# Altium footprint library DSK0010A.PcbLib: 1 footprints
Each footprint in its own frame and in the unit in brackets; x right, y up, seen from the top. Pads: shape width x height; smd on the part's side, far side on the other; paste and mask are expansions set on the pad; w line width, h text height; cw(c..) or ccw(c..) is an arc to the next point about the centre after c.
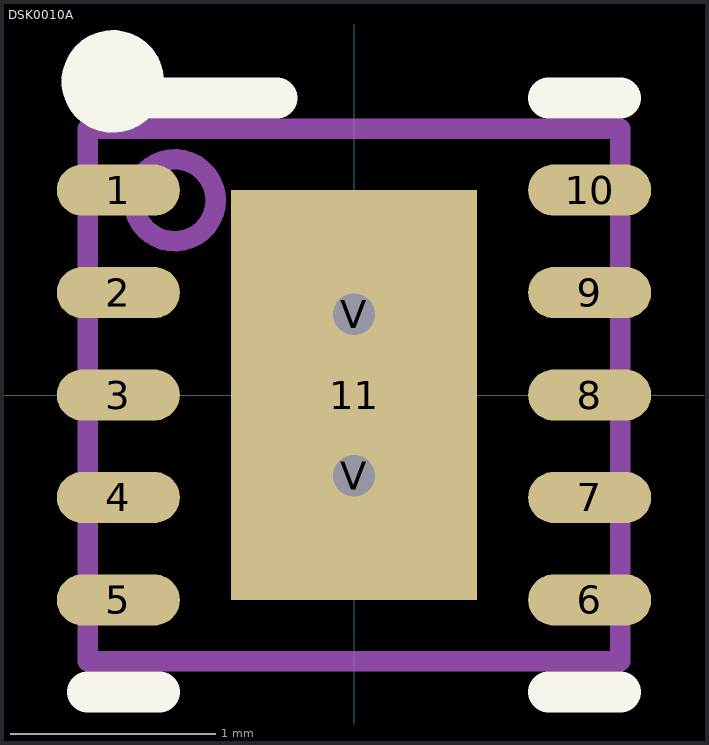
[diagram p0: the footprint, top view; thin cyan lines are the x and y axes]

## DSK0010A [mm]
pads (13):
  oval 0.6x0.25 smd paste-0.102 mask+0.051: 1(-1.15,1) 2(-1.15,0.5) 3(-1.15,0) 4(-1.15,-0.5) 5(-1.15,-1) 6(1.15,-1) 7(1.15,-0.5) 8(1.15,0) 9(1.15,0.5) 10(1.15,1)
  rect 1.2x2 smd paste-0.6 mask+0.051: 11(0,0)
  round 0.5 hole 0.203 mask+0.051: V(0,-0.394) V(0,0.394)
Top Overlay:
  circle w0.25: c-1.177,1.53 r0.125
  lines w0.2: -1.3,-1.45 -0.95,-1.45 ; -1.3,1.45 -0.375,1.45 ; 0.95,-1.45 1.3,-1.45 ; 0.95,1.45 1.3,1.45
Top Paste:
  region: -0.563,0.895 -0.563,-0.894 0.563,-0.894 0.563,0.895
Top Solder:
  region: 0.663,0.594 -0.663,0.594 -0.663,1.064 0.663,1.064
  region: 0.663,-0.194 -0.663,-0.194 -0.663,0.194 0.663,0.194
  region: 0.663,-1.064 -0.663,-1.064 -0.663,-0.594 0.663,-0.594
  region: -0.2,-1.064 -0.663,-1.064 -0.663,1.064 -0.2,1.064
  region: 0.663,-1.064 0.2,-1.064 0.2,1.064 0.663,1.064
  region: 0,1
  region: 0,-1
Mechanical 13:
  circle w0.1: c-0.875,0.95 r0.2
  lines w0.1: -1.3,-1.3 1.3,-1.3 1.3,1.3 -1.3,1.3 -1.3,-1.3
3D body: height 0.25, standoff 0, extent 0,0 0.254,0.254
3D body "DSK0010A.stp": height 0.8, standoff 0, extent -1.25,-1.25 1.25,1.25